# EAGLE library part TPS61088 (library TPS61088)
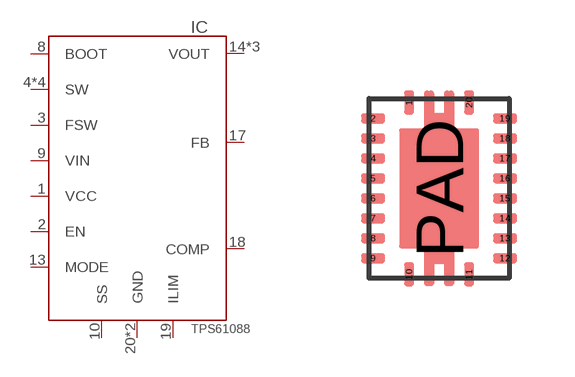
[diagram p0: symbol with the pads of VQFN20-EP; footprint VQFN20-EP]

Designator prefix IC

## TPS61088RHL (MARK: S61088A; MF: Texas Instruments; MPN: TPS61088RHL)  [VQFN20-EP]
1  VCC
2  EN  in
3  FSW  in
4  SW
5  SW
6  SW
7  SW
8  BOOT
9  VIN  in
10  SS
13  MODE  in
14  VOUT  out
15  VOUT  out
16  VOUT  out
17  FB  in
18  COMP
19  ILIM
20  GND
PAD  GND

## Footprint VQFN20-EP (pad centres in mm)
smd 0.24 x 0.6: 1 -0.75,2.15; 10 -0.75,-2.15; 11 0.75,-2.15; 20 0.75,2.15
smd 0.6 x 0.24: 2 -1.65,1.75; 3 -1.65,1.25; 4 -1.65,0.75; 5 -1.65,0.25; 6 -1.65,-0.25; 7 -1.65,-0.75; 8 -1.65,-1.25; 9 -1.65,-1.75; 12 1.65,-1.75; 13 1.65,-1.25; 14 1.65,-0.75; 15 1.65,-0.25; 16 1.65,0.25; 17 1.65,0.75; 18 1.65,1.25; 19 1.65,1.75
smd 2 x 3: PAD 0,0